# EAGLE library part 0473092851_DEV (library Blizzard_Library)
Micro SD Card Connector WM6701CT-ND 0473092851 Molex 9 (8 + 1) Position Card Connector Secure Digital - microSD™ Surface Mount, Right Angle Gold
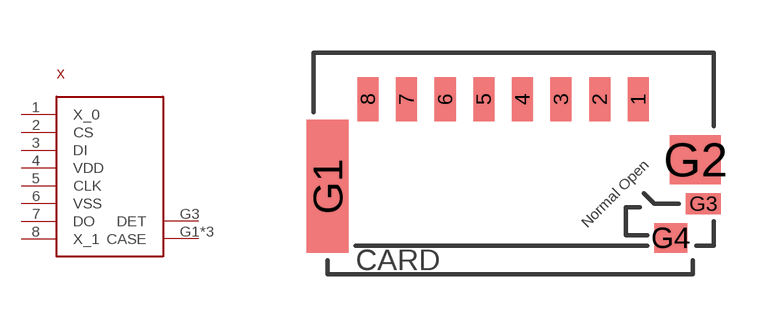
[diagram p14: symbol with the pads of 0473092851_PKG; footprint 0473092851_PKG]

Designator prefix X

## 0473092851_DEV  [0473092851_PKG]
1  X_0
2  CS
3  DI
4  VDD
5  CLK
6  VSS
7  DO
8  X_1
G1  CASE
G2  CASE
G3  DET
G4  CASE

## Footprint 0473092851_PKG (pad centres in mm)
0473092851 SD Card Holder
smd 0.6 x 1.25: 1 3.85,-1.325; 2 2.75,-1.325; 3 1.65,-1.325; 4 0.55,-1.325; 5 -0.55,-1.325; 6 -1.65,-1.325; 7 -2.75,-1.325; 8 -3.85,-1.325
smd 1.2 x 3.79: G1 -5,-3.805
smd 1.45 x 1.4: G2 5.475,-3.05
smd 1 x 0.6: G3 5.7,-4.3
smd 0.95 x 0.85: G4 4.775,-5.275